# Altium schematic symbol library PIC12F675_prt.SCHLIB: 35 symbols
Pins are listed as number, name and electrical type; pins without a type are passive.

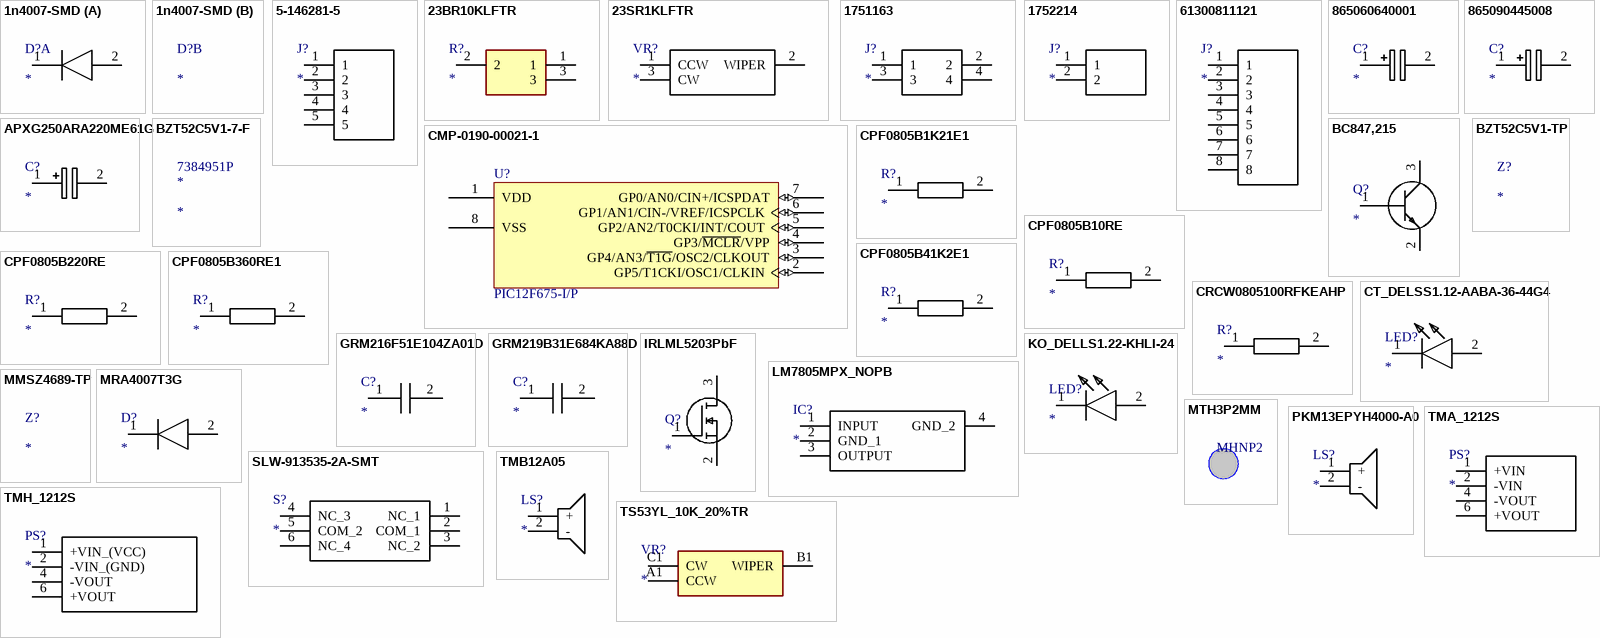
[diagram p0: symbols 1n4007-SMD to TS53YL_10K_20%TR]

## 1n4007-SMD
designator D?
Diode; Manufacturer_Name: SYC; Manufacturer_Part_Number: 1n4007-SMD; Datasheet Link: http://www.sycelectronica.com.ar/semiconductores/1N4007-SMD.pdf; Height: 2.438mm
footprint DIOM5027X244N
part A pins: 1 K, 2 A

## 5-146281-5
designator J?
Connector; Manufacturer_Name: TE Connectivity; Manufacturer_Part_Number: 5-146281-5; Datasheet Link: https://www.te.com/commerce/DocumentDelivery/DDEController?Action=showdoc&DocId=Customer+Drawing%7F146281%7FG2%7Fpdf%7FEnglish%7FENG_CD_146281_G2.pdf%7F5-146281-5; Height: 8.21mm; Mouser Part Number: 571-5-146281-5; Mouser Price/Stock: https://www.mouser.co.uk/ProductDetail/TE-Connectivity/5-146281-5?qs=bwpFY26eRVcDY9brDBVAcw%3D%3D; Arrow Part Number: 5-146281-5; Arrow Price/Stock: https://www.arrow.com/en/products/5-146281-5/te-connectivity?region=nac
footprint HDRV5W67P0X254_1X5_1229X234X821P
pins: 1, 2, 3, 4, 5

## 23BR10KLFTR
designator R?
Resistor; Manufacturer_Name: TT Electronics; Manufacturer_Part_Number: 23BR10KLFTR; Datasheet Link: https://datasheet.datasheetarchive.com/originals/distributors/Datasheets_SAMA/19e99239d7451f8fee35d6441a4945c8.pdf; Height: 2mm; Mouser Part Number: 858-23BR10KLFTR; Mouser Price/Stock: https://www.mouser.com/Search/ProductDetail.aspx?qs=gQBTb7UQo2KQtf18q%252b3T0Q%3d%3d; Arrow Part Number: 23BR10KLFTR; Arrow Price/Stock: https://www.arrow.com/en/products/23br10klftr/bi-technologies?region=nac
footprint 23BR10KLFTR
pins: 1, 2, 3

## 23SR1KLFTR
designator VR?
Variable Resistor; Manufacturer_Name: TT Electronics; Manufacturer_Part_Number: 23SR1KLFTR; Datasheet Link: https://www.mouser.com/datasheet/2/414/23-1527241.pdf; Height: 2.73mm
footprint 23SR1KLFTR
pins: 1 CCW, 2 WIPER, 3 CW

## 1751163
designator J?
Connector; Manufacturer_Name: Phoenix Contact; Manufacturer_Part_Number: 1751163; Datasheet Link: http://www.phoenixcontact.com/gb/produkte/1751163; Height: 12mm; Mouser Part Number: 651-1751163; Mouser Price/Stock: https://www.mouser.co.uk/ProductDetail/Phoenix-Contact/1751163?qs=Fz3yxlUjJZGCGL6dC16Y4Q%3D%3D; Arrow Part Number: 1751163; Arrow Price/Stock: https://www.arrow.com/en/products/1751163/phoenix-contact?region=nac
footprint SHDR4W113P700X508_2X2_1039X1200X1200P
pins: 1, 2, 3, 4

## 1752214
designator J?
Connector; Manufacturer_Name: Phoenix Contact; Manufacturer_Part_Number: 1752214; Datasheet Link: https://datasheet.datasheetarchive.com/originals/distributors/Datasheets_SAMA/4c4c9ca6f67cab8b5ed03ba5edf5cd72.pdf; Height: 12.65mm; Mouser Part Number: 651-1752214; Mouser Price/Stock: https://www.mouser.co.uk/ProductDetail/Phoenix-Contact/1752214?qs=Fz3yxlUjJZFFayST2%2F%2Ff6A%3D%3D; Arrow Part Number: 1752214; Arrow Price/Stock: https://www.arrow.com/en/products/1752214/phoenix-contact?region=nac
footprint 1752214
pins: 1, 2

## 61300811121
designator J?
Connector; Manufacturer_Name: Wurth Elektronik; Manufacturer_Part_Number: 61300811121; Datasheet Link: http://katalog.we-online.de/em/datasheet/6130xx11121.pdf; Height: 8.54mm; Mouser Part Number: 710-61300811121; Mouser Price/Stock: https://www.mouser.co.uk/ProductDetail/Wurth-Elektronik/61300811121?qs=PhR8RmCirEZRdx%252BVlEmRRA%3D%3D
footprint HDRV8W64P0X254_1X8_2032X254X854P
pins: 1, 2, 3, 4, 5, 6, 7, 8

## 865060640001
designator C?
Capacitor Polarised; Manufacturer_Name: Wurth Elektronik; Manufacturer_Part_Number: 865060640001; Datasheet Link: http://katalog.we-online.de/pbs/datasheet/865060640001.pdf; Height: 5.5mm; Mouser Part Number: 710-865060640001; Mouser Price/Stock: https://www.mouser.co.uk/ProductDetail/Wurth-Elektronik/865060640001?qs=0KOYDY2FL29jNN4jHhp9bQ%3D%3D
footprint CAPAE430X550N
pins: 1 +, 2 -

## 865090445008
designator C?
Capacitor Polarised; Manufacturer_Name: Wurth Elektronik; Manufacturer_Part_Number: 865090445008; Datasheet Link: https://componentsearchengine.com/Datasheets/1/865090445008.pdf; Height: 7.7mm; Mouser Part Number: 710-865090445008; Mouser Price/Stock: https://www.mouser.co.uk/ProductDetail/Wurth-Elektronik/865090445008?qs=0KOYDY2FL2%252B%2F1BMZ3gQUdQ%3D%3D
footprint CAPAE660X770N
pins: 1 +, 2 -

## APXG250ARA220ME61G
designator C?
Capacitor Polarised; Manufacturer_Name: Chemi-Con; Manufacturer_Part_Number: APXG250ARA220ME61G; Datasheet Link: https://datasheet.datasheetarchive.com/originals/distributors/Datasheets_SAMA/b8919aa5cd8c8f60981088f28d7e01af.pdf; Height: 6.1mm; Mouser Part Number: 661-APXG250A220ME61G; Mouser Price/Stock: https://www.mouser.co.uk/ProductDetail/Chemi-Con/APXG250ARA220ME61G?qs=FBI%252BX3tnPf3pLyDPuxZA9A%3D%3D; Arrow Part Number: APXG250ARA220ME61G; Arrow Price/Stock: https://www.arrow.com/en/products/apxg250ara220me61g/united-chemi-con?region=nac
footprint CAPAE530X610N
pins: 1 +, 2 -

## BC847,215
designator Q?
Transistor BJT NPN; Manufacturer_Name: Nexperia; Manufacturer_Part_Number: BC847,215; Datasheet Link: https://assets.nexperia.com/documents/data-sheet/BC847_SER.pdf; Height: 1.1mm; Mouser Part Number: 771-BC847215; Mouser Price/Stock: https://www.mouser.co.uk/ProductDetail/Nexperia/BC847215?qs=me8TqzrmIYWROhdFmDauyQ%3D%3D; Arrow Part Number: BC847,215; Arrow Price/Stock: https://www.arrow.com/en/products/bc847215/nexperia?region=nac
footprint BC847215
pins: 1 B, 2 E, 3 C

## BZT52C5V1-7-F
designator *  Supplier Part Number 1: 7384951P
Zener Diode SOD123 T&r 3K Rohs Compliant: Yes; Manufacturer: Diodes; Manufacturer Part Number: BZT52C5V1-7-F; Voltage Rating (DC): 5.1V; Supplier 1: Rs; RoHS: Yes; Category: LDO; Stock 1: 21400; Pricing 1: 1600=0,035 (EUR); Lead Free: 5697LeadFree; ComponentLink1URL: https://datasheet.ciiva.com/15142/getdatasheetpartid-75143-15142417.pdf?src-supplier=Verical; ComponentLink1Description: https://datasheet.ciiva.com/15142/getdatasheetpartid-75143-15142417.pdf?src-supplier=Verical; ComponentLink2URL: https://datasheet.ciiva.com/22713/1670962-22713975.pdf?src-supplier=Element14; ComponentLink2Description: https://datasheet.ciiva.com/22713/1670962-22713975.pdf?src-supplier=Element14; ComponentLink3URL: https://datasheet.ciiva.com/4734/ds18004-73542-4734246.pdf?src-supplier=Mouser; ComponentLink3Description: https://datasheet.ciiva.com/4734/ds18004-73542-4734246.pdf?src-supplier=Mouser

## BZT52C5V1-TP
designator Z?
Zener Diode; Manufacturer_Name: MCC; Manufacturer_Part_Number: BZT52C5V1-TP; Description: Zener Diodes; Datasheet Link: https://www.mccsemi.com/pdf/Products/BZT52C2V0_BZT52C75(500mW)(SOD-123).pdf; Height: 1.35mm; Mouser Part Number: 833-BZT52C5V1-TP; Mouser Price/Stock: https://www.mouser.co.uk/ProductDetail/Micro-Commercial-Components-MCC/BZT52C5V1-TP?qs=ZNK0BnemlqGS%2FcMHrWMpww%3D%3D; Arrow Part Number: BZT52C5V1-TP; Arrow Price/Stock: https://www.arrow.com/en/products/bzt52c5v1-tp/micro-commercial-components?utm_currency=USD&region=asia
footprint SOD3716X135N

## CMP-0190-00021-1
designator U?, comment PIC12F675-I/P
FLASH-Based 8-Bit CMOS Microcontroller, 10-Bit A/D, 8-Pin PDIP, Industrial Temperature; Manufacturer: Microchip; Note1: Refer to data sheet (DS41190F) for details of supply voltage range under different conditions.; DatasheetVersion: revF, Sep-2009; Code_JEDEC: MS-001; PackageVersion: revBB, Aug-2009; PackageDescription: 8-Lead Plastic Dual In-Line (P) - 300 mil Body [PDIP]; PackageReference: PDIP300-P8; Manufacturer Part Number: PIC12F675-I/P
footprint PDIP300-P8 (DIP, 8-Leads, Row Spacing 7.62mm, Pitch 2.54mm, Body 9.5x6.6mm)
pins: 1 VDD (power), 2 GP5/T1CKI/OSC1/CLKIN (io), 3 GP4/AN3/~{T1G}/OSC2/CLKOUT (io), 4 GP3/~{MCLR}/VPP (io), 5 GP2/AN2/T0CKI/INT/COUT (io), 6 GP1/AN1/CIN-/VREF/ICSPCLK (io), 7 GP0/AN0/CIN+/ICSPDAT (io), 8 VSS (power)

## CPF0805B1K21E1
designator R?
Resistor; Manufacturer_Name: TE Connectivity; Manufacturer_Part_Number: CPF0805B1K21E1; Datasheet Link: http://docs-europe.electrocomponents.com/webdocs/13d1/0900766b813d116f.pdf; Height: 0.65mm; Mouser Part Number: 279-CPF0805B1K21E1; Mouser Price/Stock: https://www.mouser.co.uk/ProductDetail/TE-Connectivity-Holsworthy/CPF0805B1K21E1?qs=n4i9pByFsMS%252Ba6CS1X8bxg%3D%3D; Arrow Part Number: CPF0805B1K21E1; Arrow Price/Stock: https://www.arrow.com/en/products/cpf0805b1k21e1/te-connectivity?region=nac
footprint RESC2012X65N
pins: 1, 2

## CPF0805B10RE
designator R?
Resistor; Manufacturer_Name: TE Connectivity; Manufacturer_Part_Number: CPF0805B10RE; Datasheet Link: http://docs-europe.electrocomponents.com/webdocs/13d1/0900766b813d116f.pdf; Height: 0.65mm; Mouser Part Number: 279-CPF0805B10RE; Mouser Price/Stock: https://www.mouser.com/Search/Refine.aspx?Keyword=279-CPF0805B10RE
footprint RESC2012X65N
pins: 1, 2

## CPF0805B41K2E1
designator R?
Resistor; Manufacturer_Name: TE Connectivity; Manufacturer_Part_Number: CPF0805B41K2E1; Datasheet Link: http://docs-europe.electrocomponents.com/webdocs/13d1/0900766b813d116f.pdf; Height: 0.65mm
footprint RESC2012X65N
pins: 1, 2

## CPF0805B220RE
designator R?
Resistor; Manufacturer_Name: TE Connectivity; Manufacturer_Part_Number: CPF0805B220RE; Datasheet Link: http://docs-europe.electrocomponents.com/webdocs/13d1/0900766b813d116f.pdf; Height: 0.65mm
footprint RESC2012X65N
pins: 1, 2

## CPF0805B360RE1
designator R?
Resistor; Manufacturer_Name: TE Connectivity; Manufacturer_Part_Number: CPF0805B360RE1; Datasheet Link: http://docs-europe.electrocomponents.com/webdocs/13d1/0900766b813d116f.pdf; Height: 0.65mm; Mouser Part Number: 279-CPF0805B360RE1; Mouser Price/Stock: https://www.mouser.co.uk/ProductDetail/TE-Connectivity-Holsworthy/CPF0805B360RE1?qs=iJVBkmKXgrlAzfqD%252B6zqmg%3D%3D
footprint RESC2012X65N
pins: 1, 2

## CRCW0805100RFKEAHP
designator R?
Resistor; Manufacturer_Name: Vishay; Manufacturer_Part_Number: CRCW0805100RFKEAHP; Datasheet Link: https://componentsearchengine.com/Datasheets/1/CRCW08051R00FKEAHP.pdf; Height: 0.6mm; Mouser Part Number: 71-CRCW0805100RFKEAH; Mouser Price/Stock: https://www.mouser.co.uk/ProductDetail/Vishay-Dale/CRCW0805100RFKEAHP?qs=k2%2FDWSARqgHN0DmoUSjg4g%3D%3D; Arrow Part Number: CRCW0805100RFKEAHP; Arrow Price/Stock: https://www.arrow.com/en/products/crcw0805100rfkeahp/vishay?region=nac
footprint RESC2012X60N
pins: 1, 2

## CT_DELSS1.12-AABA-36-44G4
designator LED?
LED; Manufacturer_Name: ams OSRAM; Manufacturer_Part_Number: CT DELSS1.12-AABA-36-44G4; Datasheet Link: https://www.digikey.com/product-detail/en/osram-opto-semiconductors-inc/CT-DELSS1.12-AABA-36-44G4/475-3669-1-ND/9989888; Height: 0.6mm; Mouser Part Number: 720-CTDELSS112A1193; Mouser Price/Stock: https://www.mouser.co.uk/ProductDetail/OSRAM-Opto-Semiconductors/CT-DELSS112-AABA-36-44G4?qs=%252BEew9%252B0nqrAxkL%2FEjDaK4Q%3D%3D; Arrow Part Number: CT DELSS1.12-AABA-36-44G4; Arrow Price/Stock: https://www.arrow.com/en/products/ct-delss1.12-aaba-36-44g4/osram-opto-semiconductors
footprint CTDELSS112AABA3644G4
pins: 1 K, 2 A

## GRM216F51E104ZA01D
designator C?
Capacitor; Manufacturer_Name: Murata Electronics; Manufacturer_Part_Number: GRM216F51E104ZA01D; Datasheet Link: http://www.murata.com/~/media/webrenewal/support/library/catalog/products/capacitor/mlcc/c02e.pdf; Height: 0.7mm; Mouser Part Number: 81-GRM40Y104Z25D; Mouser Price/Stock: https://www.mouser.co.uk/ProductDetail/Murata-Electronics/GRM216F51E104ZA01D?qs=duOfYTBEatk23Zc3Fu%2FfWg%3D%3D
footprint CAPC2012X70N
pins: 1, 2

## GRM219B31E684KA88D
designator C?
Capacitor; Manufacturer_Name: Murata Electronics; Manufacturer_Part_Number: GRM219B31E684KA88D; Datasheet Link: http://www.murata.com/~/media/webrenewal/support/library/catalog/products/capacitor/mlcc/c02e.pdf; Height: 0.95mm
footprint CAPC2012X95N
pins: 1, 2

## IRLML5203PbF
designator Q?
MOSFET (N-Channel); Manufacturer_Name: Infineon; Manufacturer_Part_Number: IRLML5203PbF; Datasheet Link: http://www.irf.com/product-info/datasheets/data/irlml5203.pdf; Height: 1.11mm; Mouser Part Number: N/A; Mouser Price/Stock: https://www.mouser.co.uk/ProductDetail/Infineon-IR/IRLML5203PbF?qs=Gkr2N%2F2q3o0Y8lPnBlx52Q%3D%3D
footprint SOT95P230X111-3N
pins: 1 G, 2 S, 3 D

## KO_DELLS1.22-KHLI-24
designator LED?
LED; Manufacturer_Name: ams OSRAM; Manufacturer_Part_Number: KO DELLS1.22-KHLI-24; Height: 0.7mm; Mouser Part Number: 720-KODELLS122A4850; Mouser Price/Stock: https://www.mouser.co.uk/ProductDetail/OSRAM-Opto-Semiconductors/KO-DELLS122-KHLI-24?qs=XeJtXLiO41R0bRqKROqEqw%3D%3D
footprint KODELLS122KHLI24
pins: 1 K, 2 A

## LM7805MPX_NOPB
designator IC?
Integrated Circuit; Manufacturer_Name: Texas Instruments; Manufacturer_Part_Number: LM7805MPX/NOPB; Datasheet Link: https://www.arrow.com/en/products/lm7805mpxnopb/texas-instruments; Height: 1.8mm; Mouser Part Number: 595-LM7805MPX/NOPB; Mouser Price/Stock: https://www.mouser.co.uk/ProductDetail/Texas-Instruments/LM7805MPX-NOPB?qs=gO6GG99qvRCSwIVAoVKHPw%3D%3D; Arrow Part Number: LM7805MPX/NOPB; Arrow Price/Stock: https://www.arrow.com/en/products/lm7805mpxnopb/texas-instruments?region=nac
footprint SOT230P700X180-4N
pins: 1 INPUT, 2 GND_1, 3 OUTPUT, 4 GND_2

## MMSZ4689-TP
designator Z?
Zener Diode; Manufacturer_Name: MCC; Manufacturer_Part_Number: MMSZ4689-TP; Description: Zener Diodes; Datasheet Link: https://mccsemi.com/pdf/Products/MMSZ4678-MMSZ4716(SOD-123).pdf; Height: 1.35mm; Mouser Part Number: 833-MMSZ4689-TP; Mouser Price/Stock: https://www.mouser.co.uk/ProductDetail/Micro-Commercial-Components-MCC/MMSZ4689-TP?qs=SdqRYZZ9IxCAbHAwt7HQmA%3D%3D; Arrow Part Number: MMSZ4689-TP; Arrow Price/Stock: https://www.arrow.com/en/products/mmsz4689-tp/micro-commercial-components?region=nac
footprint SOD3716X135N

## MRA4007T3G
designator D?
Diode; Manufacturer_Name: onsemi; Manufacturer_Part_Number: MRA4007T3G; Datasheet Link: https://www.onsemi.com/pub/Collateral/MRA4003T3-D.PDF; Height: 2.2mm; Mouser Part Number: 863-MRA4007T3G; Mouser Price/Stock: https://www.mouser.co.uk/ProductDetail/onsemi/MRA4007T3G?qs=ZpPixqFcBtze9zNLkB8kog%3D%3D; Arrow Part Number: MRA4007T3G; Arrow Price/Stock: https://www.arrow.com/en/products/mra4007t3g/on-semiconductor?region=nac
footprint DIOM5226X220N
pins: 1 K, 2 A

## MTH3P2MM
designator MHNP2, comment Mounting Hole Non-Plated 3.2mm  (value not drawn)
Mounting Hole Non-Plated 3.2mm drill hole

## PKM13EPYH4000-A0
designator LS?
Loudspeaker or Buzzer; Manufacturer_Name: Murata Electronics; Manufacturer_Part_Number: PKM13EPYH4000-A0; Datasheet Link: https://www.murata.com/products/productdata/8801054523422/SPEC-PKM13EPYH4000-A0.pdf?1517839212000; Height: 7.4mm; Mouser Part Number: 81-PKM13EPYH4000-A0; Mouser Price/Stock: https://www.mouser.co.uk/ProductDetail/Murata-Electronics/PKM13EPYH4000-A0?qs=flZjIlU0hx3F33gxKU9zcw%3D%3D; Arrow Part Number: PKM13EPYH4000-A0; Arrow Price/Stock: https://www.arrow.com/en/products/pkm13epyh4000-a0/murata-manufacturing?region=europe
footprint PKM13EPYH4000A0
pins: 1 +, 2 -

## SLW-913535-2A-SMT
designator S?
Switch; Manufacturer_Name: CUI Devices; Manufacturer_Part_Number: SLW-913535-2A-SMT; Datasheet Link: https://www.cuidevices.com/product/resource/pdf/slw-913535-2a-smt.pdf; Height: 5.9mm; Mouser Part Number: 179-SLW-913535-2ASMT; Mouser Price/Stock: https://www.mouser.co.uk/ProductDetail/CUI-Devices/SLW-913535-2A-SMT?qs=1Kr7Jg1SGW948I6fIY1VRA%3D%3D; Arrow Part Number: SLW-913535-2A-SMT; Arrow Price/Stock: https://www.arrow.com/en/products/slw-913535-2a-smt/cui-devices?region=nac
footprint SLW9135352ASMT
pins: 1 NC_1, 2 COM_1, 3 NC_2, 4 NC_3, 5 COM_2, 6 NC_4

## TMA_1212S
designator PS?
Power Supply; Manufacturer_Name: Traco Power; Manufacturer_Part_Number: TMA 1212S; Datasheet Link: https://tracopower.com/tma-datasheet/; Height: 10.45mm; Mouser Part Number: 495-TMA-1212S; Mouser Price/Stock: https://www.mouser.co.uk/ProductDetail/TRACO-Power/TMA-1212S?qs=ckJk83FOD0W653cULsJ4IQ%3D%3D
footprint TMA1205S
pins: 1 +VIN, 2 -VIN, 4 -VOUT, 6 +VOUT

## TMB12A05
designator LS?
Loudspeaker or Buzzer; Manufacturer_Name: Jiangsu Huaneng Elec; Manufacturer_Part_Number: TMB12A05; Datasheet Link: https://datasheet.lcsc.com/szlcsc/Jiangsu-Huaneng-Elec-TMB12A05_C96093.pdf; Height: 9.5mm
footprint TMB12A05
pins: 1 +, 2 -

## TMH_1212S
designator PS?
Power Supply; Manufacturer_Name: Traco Power; Manufacturer_Part_Number: TMH 1212S; Datasheet Link: https://tracopower.com/tmh-datasheet/; Height: 10.45mm; Mouser Part Number: 495-TMH-1212S; Mouser Price/Stock: https://www.mouser.co.uk/ProductDetail/TRACO-Power/TMH-1212S?qs=ckJk83FOD0UDQctCluShUA%3D%3D
footprint TMH1212S
pins: 1 +VIN_(VCC), 2 -VIN_(GND), 4 -VOUT, 6 +VOUT

## TS53YL_10K_20%TR
designator VR?
Variable Resistor; Manufacturer_Name: Vishay; Manufacturer_Part_Number: TS53YL 10K 20%TR; Datasheet Link: https://www.vishay.com/doc?51008; Height: 2mm; Mouser Part Number: 75-TS53YL10K20%TR; Mouser Price/Stock: https://www.mouser.co.uk/ProductDetail/Vishay-Sprague/TS53YL-10K-20TR?qs=fbr3QJcAB6rQumgcAWaZQw%3D%3D
footprint TS53YL204MR10
pins: A1 CCW, B1 WIPER, C1 CW